# Altium footprint library hava_kalitesi_olcumu.PcbLib: 25 footprints (part 1 of 2)
Each footprint in its own frame and in the unit in brackets; x right, y up, seen from the top. Pads: shape width x height; smd on the part's side, far side on the other; paste and mask are expansions set on the pad; w line width, h text height; cw(c..) or ccw(c..) is an arc to the next point about the centre after c.
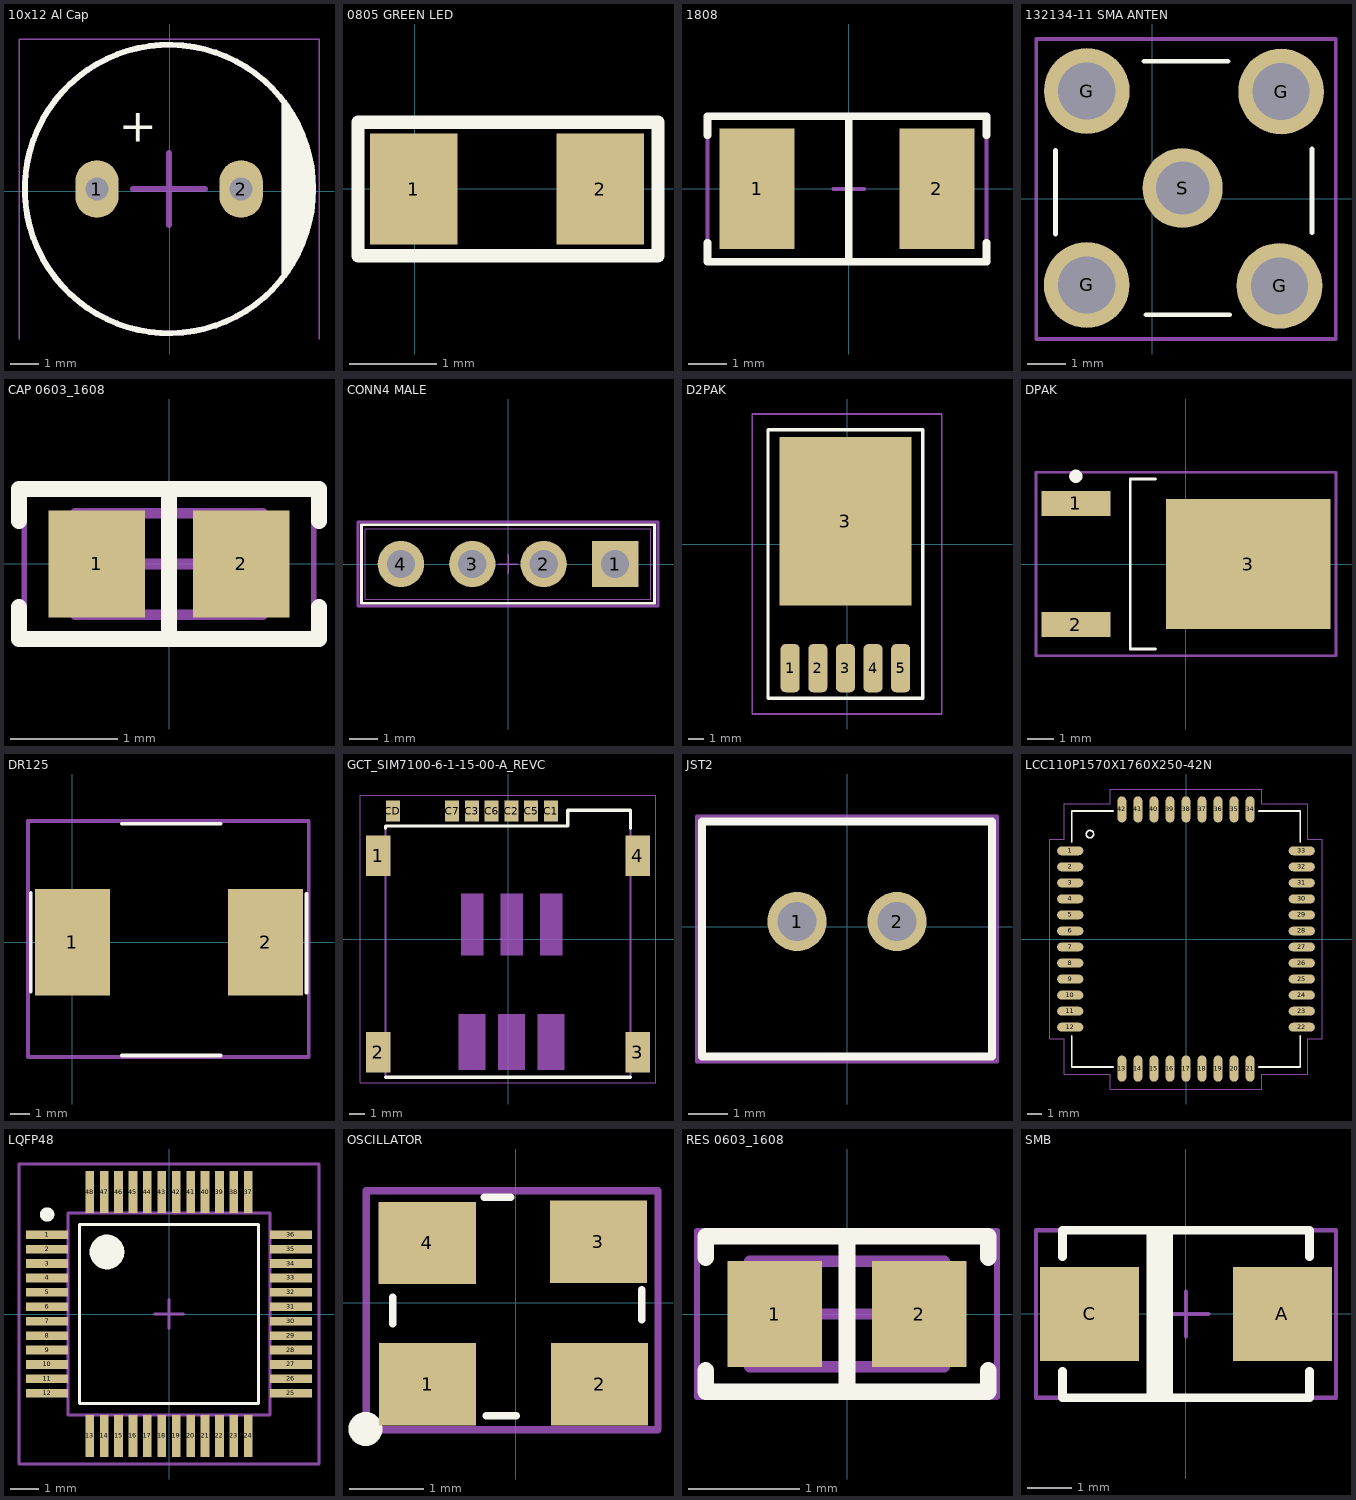
[diagram p0: the footprints below, top view; thin cyan lines are the x and y axes]

## 10x12 Al Cap [mm]
pads (2):
  oval 1.5x2 hole 0.8: 1(-2.53,0.078) 2(2.47,0.078)
Top Overlay:
  circle w0.2: c-0.03,0.078 r5
  region: 3.97,3.078 4.47,2.328 4.97,0.828 4.97,-0.672 4.72,-1.422 4.22,-2.672 3.97,-2.922
  lines w0.2: 3.97,-2.922 3.97,3.078
  text "+" at -1.78,1.328 h2
Mechanical 13:
  circle w0.2: c-0.03,0.078 r5
  lines w0.2: 3.97,-2.922 3.97,3.078
Mechanical 15:
  lines w0.05: -5.23,-5.122 -5.23,5.278 5.17,5.278 5.17,-5.122
  lines w0.2: -1.28,0.078 1.22,0.078 ; -0.03,-1.172 -0.03,1.328
3D body "CAP ALTH D-10MM L-5.0MM H-12.5MM.STEP": height 12.7, standoff -3, extent -5.03,-4.921 4.97,5.077

## 0805 GREEN LED [mm] "Led 0805"
pads (2):
  rect 1x1.27 smd: 1(-0.016,0) 2(2.118,0)
Top Overlay:
  lines w0.152: -0.651,-0.762 2.778,-0.762 2.778,0.762 -0.651,0.762 -0.651,-0.762
3D body "0805 Green LED.STEP": height 1.1, standoff 0, extent -0.01,-0.625 2.01,0.625

## 1808 [mm] "Littelfuse Fuse  6.1mm x 2.69mmx 2.69mm"
pads (2):
  rect 1.96x3.15 smd: 1(-2.4,0) 2(2.3,0)
Top Overlay:
  lines w0.2: -3.7,-1.408 -3.7,-1.908 3.6,-1.908 3.6,-1.408 ; -3.7,1.4 -3.7,1.9 3.6,1.9 3.6,1.4 ; 0,-1.9 0,1.9
Mechanical 15:
  lines w0.1: -0.4,0 0.4,0 ; 0,-0.3 0,0.3 ; -3.7,-1.9 3.6,-1.9 3.6,1.9 -3.7,1.9 -3.7,-1.9
3D body "User Library-fuse smd.STEP": height 2.88, standoff 0.19, extent -3.088,-1.376 3.012,1.314

## 132134-11 SMA ANTEN [mm] "CONN SMA JACK STR 50 OHM PCB"
pads (5):
  round 2.25 hole 1.5: G(-1.723,-2.265) G(-1.722,2.826) G(3.339,-2.288) G(3.38,2.811)
  round 2.1 hole 1.4: S(0.794,0.278)
Top Overlay:
  lines w0.127: -2.54,-0.93 -2.54,1.27 ; -0.217,3.607 1.983,3.607 ; -0.168,-3.048 2.032,-3.048 ; 4.191,-0.889 4.191,1.311
Mechanical 15:
  lines w0.1: -3.047,-3.683 4.813,-3.683 4.813,4.191 -3.047,4.191 -3.047,-3.683
3D body "132134-11.stp": height 10, standoff -2.35, extent -2.386,-2.894 3.964,3.456

## CAP 0603_1608 [mm] "Chip Capacitor, 2-Leads, Body 1.60x0.80mm, IPC Medium Density"
height 0.89
pads (2):
  rect 0.9x1 smd: 1(-0.675,0) 2(0.675,0)
Top Overlay:
  lines w0.15: -1.4,-0.4 -1.4,-0.7 1.4,-0.7 1.4,-0.4 ; -1.4,0.4 -1.4,0.7 1.4,0.7 1.4,0.4 ; 0,-0.7 0,0.7
Mechanical 13:
  lines w0.1: -0.875,-0.475 -0.875,0.475 0.875,0.475 0.875,-0.475 -0.875,-0.475
Mechanical 15:
  lines w0.05: -1.35,-0.75 -1.35,0.75 1.35,0.75 1.35,-0.75 -1.35,-0.75
  lines w0.1: -0.475,0 0.475,0 ; 0,-0.475 0,0.475
3D body "0603 cap.STEP": height 0.82, standoff 0, extent -0.8,-0.412 0.8,0.412

## CONN4 MALE [mm] "4 PIN 2.54MM"
pads (4):
  rect 1.65x1.65 hole 1 mask+0: 1(3.81,0)
  round 1.65 hole 1 mask+0: 2(1.27,0) 3(-1.27,0) 4(-3.81,0)
Top Overlay:
  lines w0.1: -5.207,-1.397 -5.207,1.397 5.207,1.397 5.207,-1.397 -5.207,-1.397
Mechanical 13:
  lines w0.025: -5.08,-1.25 -5.08,1.25 5.08,1.25 5.08,-1.25 -5.08,-1.25
Mechanical 15:
  lines w0.05: -0.35,0 0.35,0 ; 0,-0.35 0,0.35
  lines w0.1: -5.334,-1.499 -5.334,1.499 5.334,1.499 5.334,-1.499 -5.334,-1.499
3D body "4-Pin Header - Male - 2.54mm.step": height 8.89, standoff -3.05, extent -5.126,-1.288 5.034,1.252

## D2PAK [mm]
pads (6):
  rrect50% 1.2x3.05 smd: 1(-3.6,-7.85) 2(-1.85,-7.85) 3(-0.1,-7.85) 4(1.65,-7.85) 5(3.4,-7.85)
  rect 8.38x10.66 smd mask+0.102: 3(-0.1,1.45)
Top Overlay:
  lines w0.2: -5,-9.75 4.8,-9.75 4.8,-3.75 4.8,7.25 -5,7.25 -5,-9.75
Mechanical 15:
  lines w0.1: -1.25,0 1,0 ; 0,-1.25 0,1 ; -6,-10.75 -6,-6 -6,3.5 -6,8.25 6,8.25 6,-0.75 6,-10.75 -6,-10.75
3D body "TO263-5-1.stp": height 4.22, standoff 0, extent -5.011,-9.011 4.811,5.591

## DPAK [mm] "D-PAK, 3-Pads, Body 6,20x6,56mm (max), IPC Medium Density"
height 2.4
pads (3):
  rect 2.6x0.95 smd mask+0.05: 1(-4.15,2.28) 2(-4.15,-2.28)
  rect 6.2x4.9 smd mask+0.05: 3(2.35,0)
Top Overlay:
  circle w0.25: c-4.15,3.305 r0.125
  lines w0.1: -1.15,-3.2 -2.1,-3.2 -2.1,3.2 -1.15,3.2
Mechanical 15:
  lines w0.1: -0.5,0 0.5,0 ; 0,-0.5 0,0.5 ; -5.65,-3.45 5.65,-3.45 5.65,3.45 -5.65,3.45 -5.65,-3.45
3D body "DPAK.step": height 3.4, standoff 0, extent -4.275,-3.2 5.45,3.2

## DR125 [mm]
pads (2):
  rect 3.85x5.5 smd: 1(0,0) 2(9.95,0)
Top Overlay:
  lines w0.2: -2.142,-2.553 -2.142,2.527 ; 2.54,-5.842 7.62,-5.842 ; 2.54,6.096 7.62,6.096 ; 12.063,-2.595 12.063,2.485
Mechanical 15:
  lines w0.2: -2.286,-5.914 12.17,-5.914 12.17,6.239 -2.286,6.239 -2.286,-5.914
3D body "DR125 series.stp": height 5.92, standoff 0.02, extent -0.92,-5.873 11.08,6.127

## GCT_SIM7100-6-1-15-00-A_REVC [mm]
pads (11):
  rect 1.56x2.61 smd: 1(-8.34,5.34) 2(-8.34,-7.29) 3(8.34,-7.29) 4(8.34,5.34)
  rect 0.9x1.35 smd: C1(2.755,8.215) C2(0.215,8.215) C3(-2.325,8.215) C5(1.485,8.215) C6(-1.055,8.215) C7(-3.595,8.215) CD(-7.405,8.215)
Top Overlay:
  lines w0.2: -7.875,-8.89 7.875,-8.89 ; -7.875,7.1 -7.875,7.27 3.84,7.27 3.84,8.28 7.875,8.28 7.875,7.1
Mechanical 13:
  lines w0.1: -7.875,-8.89 -7.875,7.27 3.84,7.27 3.84,8.28 7.875,8.28 7.875,-8.89 -7.875,-8.89
Mechanical 15:
  region: 0.935,-1.03 -0.465,-1.03 -0.465,2.91 0.935,2.91
  region: 3.625,-8.41 1.925,-8.41 1.925,-4.83 3.625,-4.83
  region: 3.475,-1.03 2.075,-1.03 2.075,2.91 3.475,2.91
  region: 1.085,-8.41 -0.615,-8.41 -0.615,-4.83 1.085,-4.83
  region: -1.455,-8.41 -3.155,-8.41 -3.155,-4.83 -1.455,-4.83
  region: -1.605,-1.03 -3.005,-1.03 -3.005,2.91 -1.605,2.91
  lines w0.05: -9.5,-9.25 -9.5,9.25 9.5,9.25 9.5,-9.25 -9.5,-9.25
  lines w0.1: -0.5,0 0.5,0 ; 0,-0.5 0,0.5
3D body "SIM7100-6-1-15-00-A--3DModel-STEP-56544.STEP": height 1.5, standoff -0.03, extent -8.406,-8.989 8.344,8.341

## JST2 [mm] "2 PIN 2.54MM"
pads (2):
  round 1.5 hole 1 mask+0.102: 1(-1.27,0.127) 2(1.27,0.127)
Top Overlay:
  lines w0.2: -3.683,-3.302 3.683,-3.302 3.683,2.667 -3.683,2.667 -3.683,-3.302
Mechanical 15:
  lines w0.1: -3.81,-3.429 3.81,-3.429 3.81,2.794 -3.81,2.794 -3.81,-3.429
3D body "JST - XH - Thru (V) - 2Pin - 2.54mm.stp": height 7.21, standoff -3, extent -3.607,-3.226 3.607,2.616

## LCC110P1570X1760X250-42N [mm]
pads (42):
  oval 1.8x0.6 smd: 1(-7.95,6.05) 2(-7.95,4.95) 3(-7.95,3.85) 4(-7.95,2.75) 5(-7.95,1.65) 6(-7.95,0.55) 7(-7.95,-0.55) 8(-7.95,-1.65) 9(-7.95,-2.75) 10(-7.95,-3.85) 11(-7.95,-4.95) 12(-7.95,-6.05) 22(7.95,-6.05) 23(7.95,-4.95) 24(7.95,-3.85) 25(7.95,-2.75) 26(7.95,-1.65) 27(7.95,-0.55) 28(7.95,0.55) 29(7.95,1.65) 30(7.95,2.75) 31(7.95,3.85) 32(7.95,4.95) 33(7.95,6.05)
  oval 0.6x1.8 smd: 13(-4.4,-8.9) 14(-3.3,-8.9) 15(-2.2,-8.9) 16(-1.1,-8.9) 17(0,-8.9) 18(1.1,-8.9) 19(2.2,-8.9) 20(3.3,-8.9) 21(4.4,-8.9) 34(4.4,8.9) 35(3.3,8.9) 36(2.2,8.9) 37(1.1,8.9) 38(0,8.9) 39(-1.1,8.9) 40(-2.2,8.9) 41(-3.3,8.9) 42(-4.4,8.9)
Top Overlay:
  circle w0.1: c-6.6,7.2 r0.254
  lines w0.127: -7.85,-6.65 -7.85,-8.8 -5,-8.8 ; -7.85,6.65 -7.85,8.8 -5,8.8 ; 5,-8.8 7.85,-8.8 7.85,-6.65 ; 5,8.8 7.85,8.8 7.85,6.65
Mechanical 15:
  lines w0.05: -9.35,-6.85 -8.35,-6.85 -8.35,-9.3 -5.2,-9.3 -5.2,-10.3 5.2,-10.3 5.2,-9.3 8.35,-9.3 8.35,-6.85 9.35,-6.85 9.35,6.85 8.35,6.85 8.35,9.3 5.2,9.3 5.2,10.3 -5.2,10.3 -5.2,9.3 -8.35,9.3 -8.35,6.85 -9.35,6.85 -9.35,-6.85
3D body "SIM800C.STEP": height 2.38, standoff 0, extent -7.8,-8.8 7.9,8.8

## LQFP48 [mm] "TSQFP, 48-Leads, Body 7,00x7,00mm, Pitch 0,50mm, IPC Medium Density"
height 1.6
pads (48):
  rect 1.45x0.3 smd mask+0.05: 1(-4.225,2.75) 2(-4.225,2.25) 3(-4.225,1.75) 4(-4.225,1.25) 5(-4.225,0.75) 6(-4.225,0.25) 7(-4.225,-0.25) 8(-4.225,-0.75) 9(-4.225,-1.25) 10(-4.225,-1.75) 11(-4.225,-2.25) 12(-4.225,-2.75) 25(4.225,-2.75) 26(4.225,-2.25) 27(4.225,-1.75) 28(4.225,-1.25) 29(4.225,-0.75) 30(4.225,-0.25) 31(4.225,0.25) 32(4.225,0.75) 33(4.225,1.25) 34(4.225,1.75) 35(4.225,2.25) 36(4.225,2.75)
  rect 0.3x1.45 smd mask+0.05: 13(-2.75,-4.225) 14(-2.25,-4.225) 15(-1.75,-4.225) 16(-1.25,-4.225) 17(-0.75,-4.225) 18(-0.25,-4.225) 19(0.25,-4.225) 20(0.75,-4.225) 21(1.25,-4.225) 22(1.75,-4.225) 23(2.25,-4.225) 24(2.75,-4.225) 37(2.75,4.225) 38(2.25,4.225) 39(1.75,4.225) 40(1.25,4.225) 41(0.75,4.225) 42(0.25,4.225) 43(-0.25,4.225) 44(-0.75,4.225) 45(-1.25,4.225) 46(-1.75,4.225) 47(-2.25,4.225) 48(-2.75,4.225)
Top Overlay:
  circle w0.25: c-4.225,3.45 r0.125
  circle w0.6: c-2.15,2.15 r0.3
  lines w0.1: -3.1,-3.1 -3.1,3.1 3.1,3.1 3.1,-3.1 -3.1,-3.1
Mechanical 13:
  circle w0.1: c-2.127,2.172 r0.5
  lines w0.1: -3.5,-3.5 -3.5,3.5 3.5,3.5 3.5,-3.5 -3.5,-3.5
Mechanical 15:
  lines w0.1: -0.5,0 0.5,0 ; 0,-0.5 0,0.5 ; -5.2,-5.2 -5.2,5.2 5.2,5.2 5.2,-5.2 -5.2,-5.2
3D body "LQFP48.step": height 1.6, standoff 0, extent -4.5,-4.5 4.5,4.5

## OSCILLATOR [mm] "8MHZ 12.5pF"
pads (4):
  rect 1.3x1.1 smd mask+0.05: 1(-1.181,-1.09) 2(1.119,-1.09) 3(1.103,0.817) 4(-1.186,0.801)
Top Overlay:
  circle w0.254: c-2.012,-1.689 r0.1
  lines w0.1: -1.645,-0.282 -1.645,0.072 ; -0.424,1.41 -0.07,1.41 ; -0.399,-1.511 0.001,-1.511 ; 1.684,-0.224 1.684,0.176
Top Component Center:
  circle w0.254: c-1.416,-1.124 r0.1
Mechanical 15:
  lines w0.1: -2,-1.8 -2,1.5 1.9,1.5 1.9,-1.7 -1.9,-1.7 -2,-1.8
3D body "ASE3.STEP": height 1.22, standoff -0.03, extent -1.6,-1.377 1.6,1.123

## RES 0603_1608 [mm] "Chip Resistor, 2-Leads, Body 1.60x0.80mm, IPC Medium Density"
height 0.45
pads (2):
  rect 0.85x0.95 smd: 1(-0.65,0) 2(0.65,0)
Top Overlay:
  lines w0.15: -1.27,-0.508 -1.27,-0.7 1.27,-0.7 1.27,-0.508 ; -1.27,0.508 -1.27,0.7 1.27,0.7 1.27,0.508 ; 0,-0.7 0,0.7
Mechanical 13:
  lines w0.1: -0.875,-0.475 -0.875,0.475 0.875,0.475 0.875,-0.475 -0.875,-0.475
Mechanical 15:
  lines w0.05: -1.35,-0.75 -1.35,0.75 1.35,0.75 1.35,-0.75 -1.35,-0.75
  lines w0.1: -0.475,0 0.475,0 ; 0,-0.475 0,0.475
3D body "0603 resistor.STEP": height 0.45, standoff 0, extent -0.8,-0.4 0.8,0.4

## SMB [mm]
pads (2):
  rect 2.25x2.12 smd mask+0.05: A(2.185,0) C(-2.185,0)
Top Overlay:
  rectangle: -0.9,-1.9 -0.3,1.9
  lines w0.2: -2.8,-1.3 -2.8,-1.9 2.8,-1.9 2.8,-1.3 ; -2.8,1.3 -2.8,1.9 2.8,1.9 2.8,1.3
Top Component Center:
  lines w0.1: -0.5,0 0.5,0 ; 0,-0.5 0,0.5 ; -3.4,-1.9 -3.4,1.9 3.4,1.9 3.4,-1.9 -3.4,-1.9
Mechanical 15:
  lines w0.1: -3.4,-1.9 3.4,-1.9 3.4,1.9 -3.4,1.9 -3.4,-1.9
3D body "1SMB5919BT3G.STEP": height 2.44, standoff -0.03, extent -2.72,-1.78 2.72,1.78